# Altium integrated library Holtek Semiconductor 8-Bit OTP MCU.IntLib: 195 symbols (part 2 of 7)
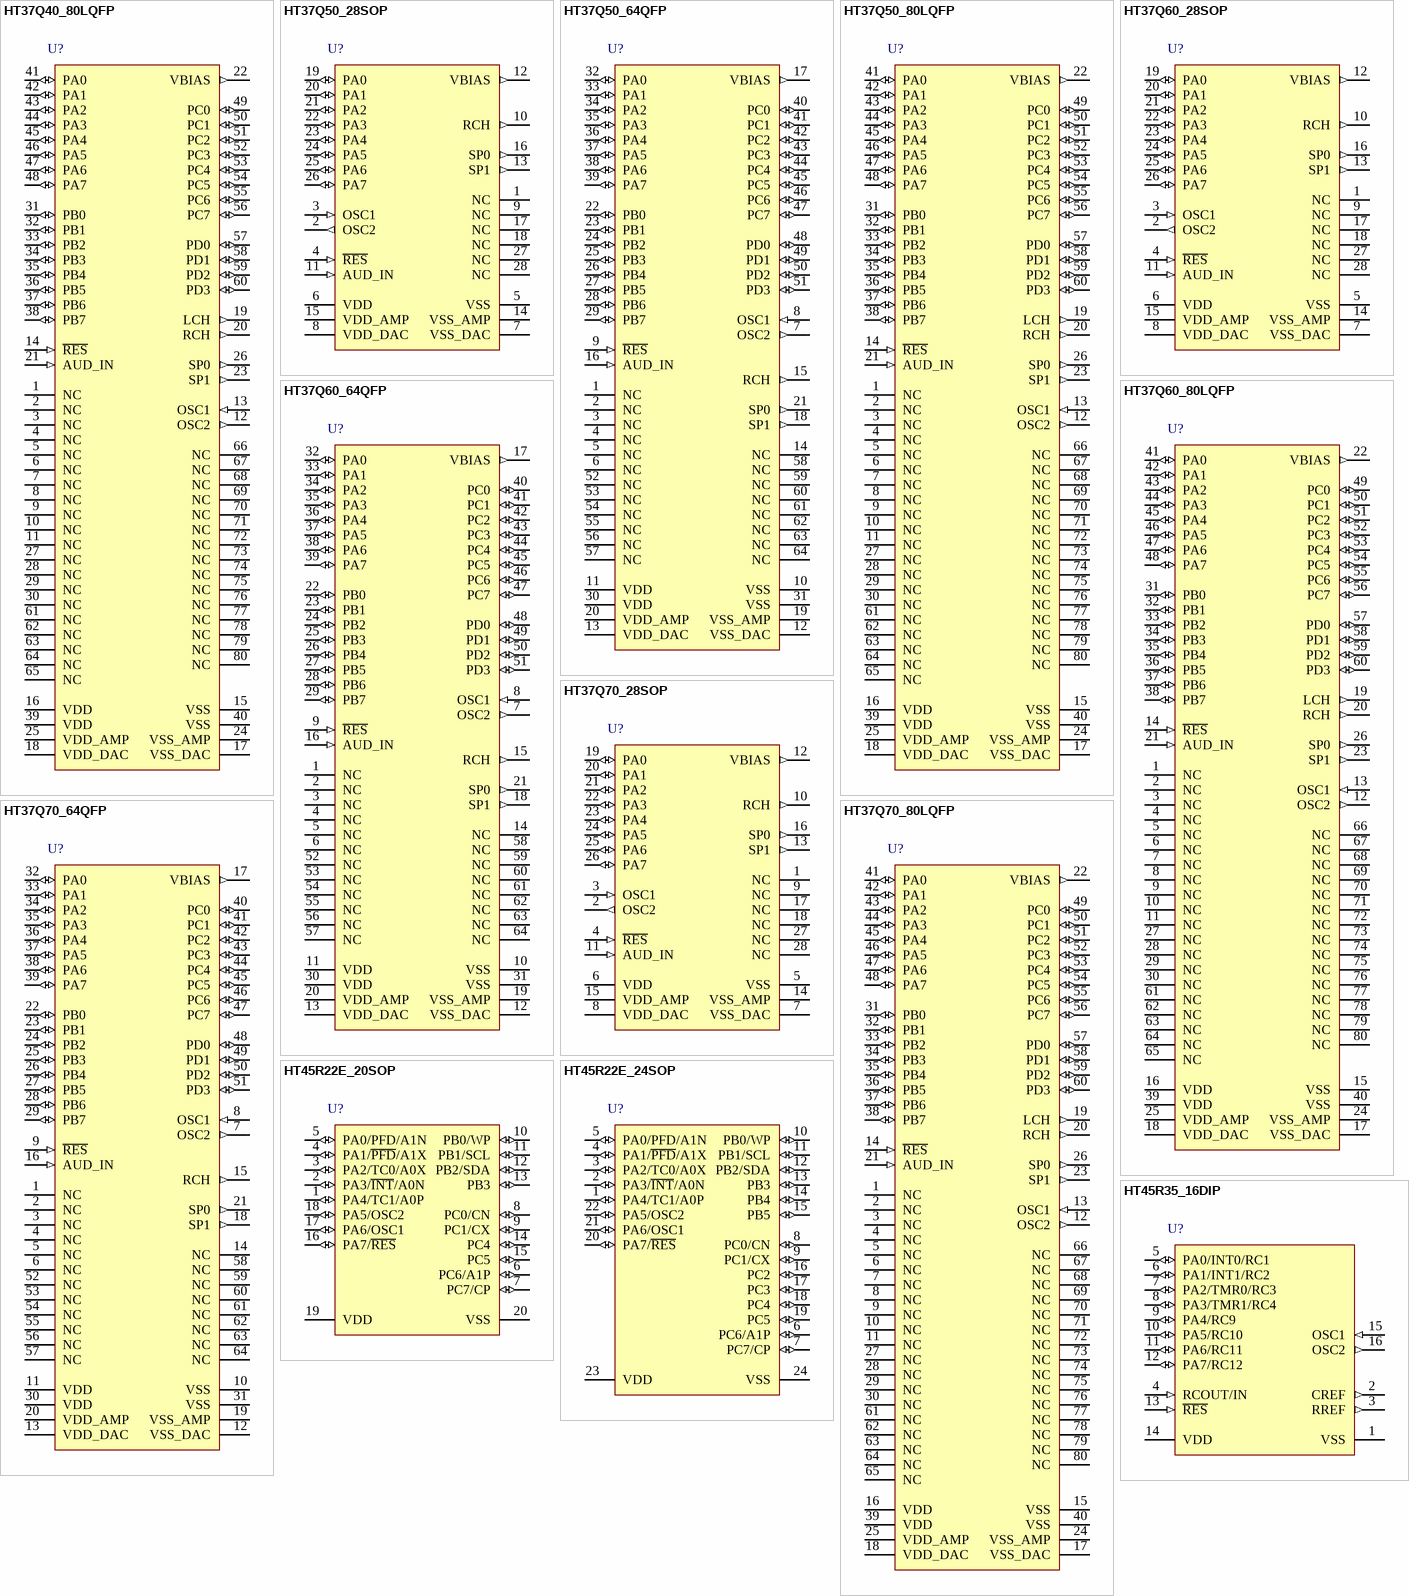
[diagram p13: symbols HT37Q40_80LQFP to HT45R35_16DIP]

## HT37Q70_28SOP
designator U?
Voice & Music MCU, Enhanced Music MCU (4 Polyphony), 2.4V-5.5V, 2Kx15 Program Memory, 80x8 Data Memory, 12 I/O, 2 x 8-bit Timer, 1 x 16-bit Timer, 16-bitx1 D/A, 28-pin SOP; I/O: 12; DatasheetVersion: rev1.0, Feb-2009; PackageVersion: 25/05/2010; PackageReference: 28SOP; PackageDescription: 28-Pin Small Outline Package, 300mil Wide, 1.27 mm Pitch; Series: Enhanced Music MCU (4 Polyphony); Operating Voltage: 2.4V-5.5V; Program Memory: 2Kx15; Data Memory: 80x8; Code_JEDEC: MS-013; ComponentLink1Description: Manufacturer URL; ComponentLink1URL: http://www.holtek.com/; ComponentLink2Description: Datasheet; ComponentLink2URL: http://www.holtek.com.cn/pdf/consumer/37qxxv100.pdf; ComponentLink3Description: Package Specification; ComponentLink3URL: http://www.holtek.com/english/literature/package.pdf
footprint 28SOP_N (SOIC, 28-Leads, Body 17.9x7.1mm, Pitch 1.27mm, IPC Medium Density)
footprint 28SOP_L (SOIC, 28-Leads, Body 17.9x7.1mm, Pitch 1.27mm, IPC High Density)
footprint 28SOP_M (SOIC, 28-Leads, Body 17.9x7.1mm, Pitch 1.27mm, IPC Low Density)
pins: 1 NC, 2 OSC2 (out), 3 OSC1 (in), 4 ~{RES} (in), 5 VSS (power), 6 VDD (power), 7 VSS_DAC (power), 8 VDD_DAC (power), 9 NC, 10 RCH (out), 11 AUD_IN (in), 12 VBIAS (out), 13 SP1 (out), 14 VSS_AMP (power), 15 VDD_AMP (power), 16 SP0 (out), 17 NC, 18 NC, 19 PA0 (io), 20 PA1 (io), 21 PA2 (io), 22 PA3 (io), 23 PA4 (io), 24 PA5 (io), 25 PA6 (io), 26 PA7 (io), 27 NC, 28 NC

## HT37Q70_64QFP
designator U?
Voice & Music MCU, Enhanced Music MCU (4 Polyphony), 2.4V-5.5V, 2Kx15 Program Memory, 80x8 Data Memory, 12 I/O, 2 x 8-bit Timer, 1 x 16-bit Timer, 16-bitx1 D/A, 64-pin QFP; I/O: 12; DatasheetVersion: rev1.0, Feb-2009; PackageVersion: 25/05/2010; PackageReference: 64QFP; PackageDescription: 64-Pin Quad Flat Pack, 20 x 14 mm Body, 1 mm Pitch; Series: Enhanced Music MCU (4 Polyphony); Operating Voltage: 2.4V-5.5V; Program Memory: 2Kx15; Data Memory: 80x8; ComponentLink1Description: Manufacturer URL; ComponentLink1URL: http://www.holtek.com/; ComponentLink2Description: Datasheet; ComponentLink2URL: http://www.holtek.com.cn/pdf/consumer/37qxxv100.pdf; ComponentLink3Description: Package Specification; ComponentLink3URL: http://www.holtek.com/english/literature/package.pdf
footprint 64QFP_N (QFP, 64-Leads, Body 20x14mm, Pitch 1mm, IPC Medium Density)
footprint 64QFP_L (QFP, 64-Leads, Body 20x14mm, Pitch 1mm, IPC High Density)
footprint 64QFP_M (QFP, 64-Leads, Body 20x14mm, Pitch 1mm, IPC Low Density)
pins: 1 NC, 2 NC, 3 NC, 4 NC, 5 NC, 6 NC, 7 OSC2 (out), 8 OSC1 (in), 9 ~{RES} (in), 10 VSS (power), 11 VDD (power), 12 VSS_DAC (power), 13 VDD_DAC (power), 14 NC, 15 RCH (out), 16 AUD_IN (in), 17 VBIAS (out), 18 SP1 (out), 19 VSS_AMP (power), 20 VDD_AMP (power), 21 SP0 (out), 22 PB0 (io), 23 PB1 (io), 24 PB2 (io), 25 PB3 (io), 26 PB4 (io), 27 PB5 (io), 28 PB6 (io), 29 PB7 (io), 30 VDD (power), 31 VSS (power), 32 PA0 (io), 33 PA1 (io), 34 PA2 (io), 35 PA3 (io), 36 PA4 (io), 37 PA5 (io), 38 PA6 (io), 39 PA7 (io), 40 PC0 (io), 41 PC1 (io), 42 PC2 (io), 43 PC3 (io), 44 PC4 (io), 45 PC5 (io), 46 PC6 (io), 47 PC7 (io), 48 PD0 (io), 49 PD1 (io), 50 PD2 (io), 51 PD3 (io), 52 NC, 53 NC, 54 NC, 55 NC, 56 NC, 57 NC, 58 NC, 59 NC, 60 NC, 61 NC, 62 NC, 63 NC, 64 NC

## HT37Q70_80LQFP
designator U?
Voice & Music MCU, Enhanced Music MCU (4 Polyphony), 2.4V-5.5V, 2Kx15 Program Memory, 80x8 Data Memory, 12 I/O, 2 x 8-bit Timer, 1 x 16-bit Timer, 16-bitx1 D/A, 80-pin LQFP; I/O: 12; DatasheetVersion: rev1.0, Feb-2009; PackageVersion: 25/05/2010; PackageReference: 80LQFP; PackageDescription: 80-Pin Low Profile Quad Flat Pack, 10 x 10 mm Body, 0.4 mm Pitch; Series: Enhanced Music MCU (4 Polyphony); Operating Voltage: 2.4V-5.5V; Program Memory: 2Kx15; Data Memory: 80x8; ComponentLink1Description: Manufacturer URL; ComponentLink1URL: http://www.holtek.com/; ComponentLink2Description: Datasheet; ComponentLink2URL: http://www.holtek.com.cn/pdf/consumer/37qxxv100.pdf; ComponentLink3Description: Package Specification; ComponentLink3URL: http://www.holtek.com/english/literature/package.pdf
footprint 80LQFP_N (Thin QFP, 80-Leads, Body 10x10mm, Pitch 0.4mm, IPC Medium Density)
footprint 80LQFP_L (Thin QFP, 80-Leads, Body 10x10mm, Pitch 0.4mm, IPC High Density)
footprint 80LQFP_M (Thin QFP, 80-Leads, Body 10x10mm, Pitch 0.4mm, IPC Low Density)
pins: 1 NC, 2 NC, 3 NC, 4 NC, 5 NC, 6 NC, 7 NC, 8 NC, 9 NC, 10 NC, 11 NC, 12 OSC2 (out), 13 OSC1 (in), 14 ~{RES} (in), 15 VSS (power), 16 VDD (power), 17 VSS_DAC (power), 18 VDD_DAC (power), 19 LCH (out), 20 RCH (out), 21 AUD_IN (in), 22 VBIAS (out), 23 SP1 (out), 24 VSS_AMP (power), 25 VDD_AMP (power), 26 SP0 (out), 27 NC, 28 NC, 29 NC, 30 NC, 31 PB0 (io), 32 PB1 (io), 33 PB2 (io), 34 PB3 (io), 35 PB4 (io), 36 PB5 (io), 37 PB6 (io), 38 PB7 (io), 39 VDD (power), 40 VSS (power), 41 PA0 (io), 42 PA1 (io), 43 PA2 (io), 44 PA3 (io), 45 PA4 (io), 46 PA5 (io), 47 PA6 (io), 48 PA7 (io), 49 PC0 (io), 50 PC1 (io), 51 PC2 (io), 52 PC3 (io), 53 PC4 (io), 54 PC5 (io), 55 PC6 (io), 56 PC7 (io), 57 PD0 (io), 58 PD1 (io), 59 PD2 (io), 60 PD3 (io), 61 NC, 62 NC, 63 NC, 64 NC, 65 NC, 66 NC, 67 NC, 68 NC, 69 NC, 70 NC, 71 NC, 72 NC, 73 NC, 74 NC, 75 NC, 76 NC, 77 NC, 78 NC, 79 NC, 80 NC

## HT45R22E_20SOP
designator U?
IR Remote MCU, Remote Type MCU with EEPROM/OPA, 2.2V-3.6V, 32kHz-4095kHz, 4Kx15 Program Memory, 128x8 DataMemory, 1Kx8 DataEEPROM, 22 I/O, 2 x 8-bit Timer, 20-pin SOP; I/O: 22; DatasheetVersion: rev1.1, Aug-2010; PackageVersion: 25/05/2010; PackageReference: 20SOP; PackageDescription: 20-Pin Small Outline Package, 300mil Wide, 1.27 mm Pitch; Series: Remote Type MCU with EEPROM/OPA; Operating Voltage: 2.2V-3.6V; Program Memory: 4Kx15; Data Memory: 128x8 DataMemory, 1Kx8 DataEEPROM; Code_JEDEC: MS-013; Code_IPC: SOIC127P1030-20; ComponentLink1Description: Manufacturer URL; ComponentLink1URL: http://www.holtek.com/; ComponentLink2Description: Datasheet; ComponentLink2URL: http://www.holtek.com.cn/pdf/uc/sim45r22ev110.pdf; ComponentLink3Description: Package Specification; ComponentLink3URL: http://www.holtek.com/english/literature/package.pdf
footprint 20SOP_N (SOIC, 20-Leads, Body 12.8x7.1mm, Pitch 1.27mm, IPC Medium Density)
footprint 20SOP_L (SOIC, 20-Leads, Body 12.8x7.1mm, Pitch 1.27mm, IPC High Density)
footprint 20SOP_M (SOIC, 20-Leads, Body 12.8x7.1mm, Pitch 1.27mm, IPC Low Density)
pins: 1 PA4/TC1/A0P (io), 2 PA3/~{INT}/A0N (io), 3 PA2/TC0/A0X (io), 4 PA1/~{PFD}/A1X (io), 5 PA0/PFD/A1N (io), 6 PC6/A1P (io), 7 PC7/CP (io), 8 PC0/CN (io), 9 PC1/CX (io), 10 PB0/WP (io), 11 PB1/SCL (io), 12 PB2/SDA (io), 13 PB3 (io), 14 PC4 (io), 15 PC5 (io), 16 PA7/~{RES} (io), 17 PA6/OSC1 (io), 18 PA5/OSC2 (io), 19 VDD (power), 20 VSS (power)

## HT45R22E_24SOP
designator U?
IR Remote MCU, Remote Type MCU with EEPROM/OPA, 2.2V-3.6V, 32kHz-4095kHz, 4Kx15 Program Memory, 128x8 DataMemory, 1Kx8 DataEEPROM, 22 I/O, 2 x 8-bit Timer, 24-pin SOP; I/O: 22; DatasheetVersion: rev1.1, Aug-2010; PackageVersion: 25/05/2010; PackageReference: 24SOP; PackageDescription: 24-Pin Small Outline Package, 300mil Wide, 1.27 mm Pitch; Series: Remote Type MCU with EEPROM/OPA; Operating Voltage: 2.2V-3.6V; Program Memory: 4Kx15; Data Memory: 128x8 DataMemory, 1Kx8 DataEEPROM; Code_JEDEC: MS-013; ComponentLink1Description: Manufacturer URL; ComponentLink1URL: http://www.holtek.com/; ComponentLink2Description: Datasheet; ComponentLink2URL: http://www.holtek.com.cn/pdf/uc/sim45r22ev110.pdf; ComponentLink3Description: Package Specification; ComponentLink3URL: http://www.holtek.com/english/literature/package.pdf
footprint 24SOP_N (SOIC, 24-Leads, Body 15.4x7.1mm, Pitch 1.27mm, IPC Medium Density)
footprint 24SOP_L (SOIC, 24-Leads, Body 15.4x7.1mm, Pitch 1.27mm, IPC High Density)
footprint 24SOP_M (SOIC, 24-Leads, Body 15.4x7.1mm, Pitch 1.27mm, IPC Low Density)
pins: 1 PA4/TC1/A0P (io), 2 PA3/~{INT}/A0N (io), 3 PA2/TC0/A0X (io), 4 PA1/~{PFD}/A1X (io), 5 PA0/PFD/A1N (io), 6 PC6/A1P (io), 7 PC7/CP (io), 8 PC0/CN (io), 9 PC1/CX (io), 10 PB0/WP (io), 11 PB1/SCL (io), 12 PB2/SDA (io), 13 PB3 (io), 14 PB4 (io), 15 PB5 (io), 16 PC2 (io), 17 PC3 (io), 18 PC4 (io), 19 PC5 (io), 20 PA7/~{RES} (io), 21 PA6/OSC1 (io), 22 PA5/OSC2 (io), 23 VDD (power), 24 VSS (power)

## HT45R35_16DIP
designator U?
Touch Key MCU, C/R-F Type MCU, 2.2V-5.5V, 400kHz-8MHz, 2Kx14 Program Memory, 120x8 Data Memory, 16 I/O, 1 x 8-bit Timer, 1 x 16-bit Timer, 12 C/R-F, 16-pin DIP; I/O: 16; DatasheetVersion: rev1.3, May-2010; PackageVersion: 25/05/2010; PackageReference: 16DIP; PackageDescription: 16-Pin, Dual In-line Package, 300mil Width, Pitch 2.54 mm, Full Lead; Series: C/R-F Type MCU; Operating Voltage: 2.2V-5.5V; Program Memory: 2Kx14; Data Memory: 120x8; Code_JEDEC: MS-001D; ComponentLink1Description: Manufacturer URL; ComponentLink1URL: http://www.holtek.com/; ComponentLink2Description: Datasheet; ComponentLink2URL: http://www.holtek.com.cn/pdf/uc/sim45x35v130.pdf; ComponentLink3Description: Package Specification; ComponentLink3URL: http://www.holtek.com/english/literature/package.pdf
footprint 16DIP (DIP, 16-Leads, Row Spacing 7.62mm, Pitch 2.54mm, Body 21.1x6.6mm)
pins: 1 VSS (power), 2 CREF (out), 3 RREF (out), 4 RCOUT/IN (in), 5 PA0/INT0/RC1 (io), 6 PA1/INT1/RC2 (io), 7 PA2/TMR0/RC3 (io), 8 PA3/TMR1/RC4 (io), 9 PA4/RC9 (io), 10 PA5/RC10 (io), 11 PA6/RC11 (io), 12 PA7/RC12 (io), 13 ~{RES} (in), 14 VDD (power), 15 OSC1 (in), 16 OSC2 (out)

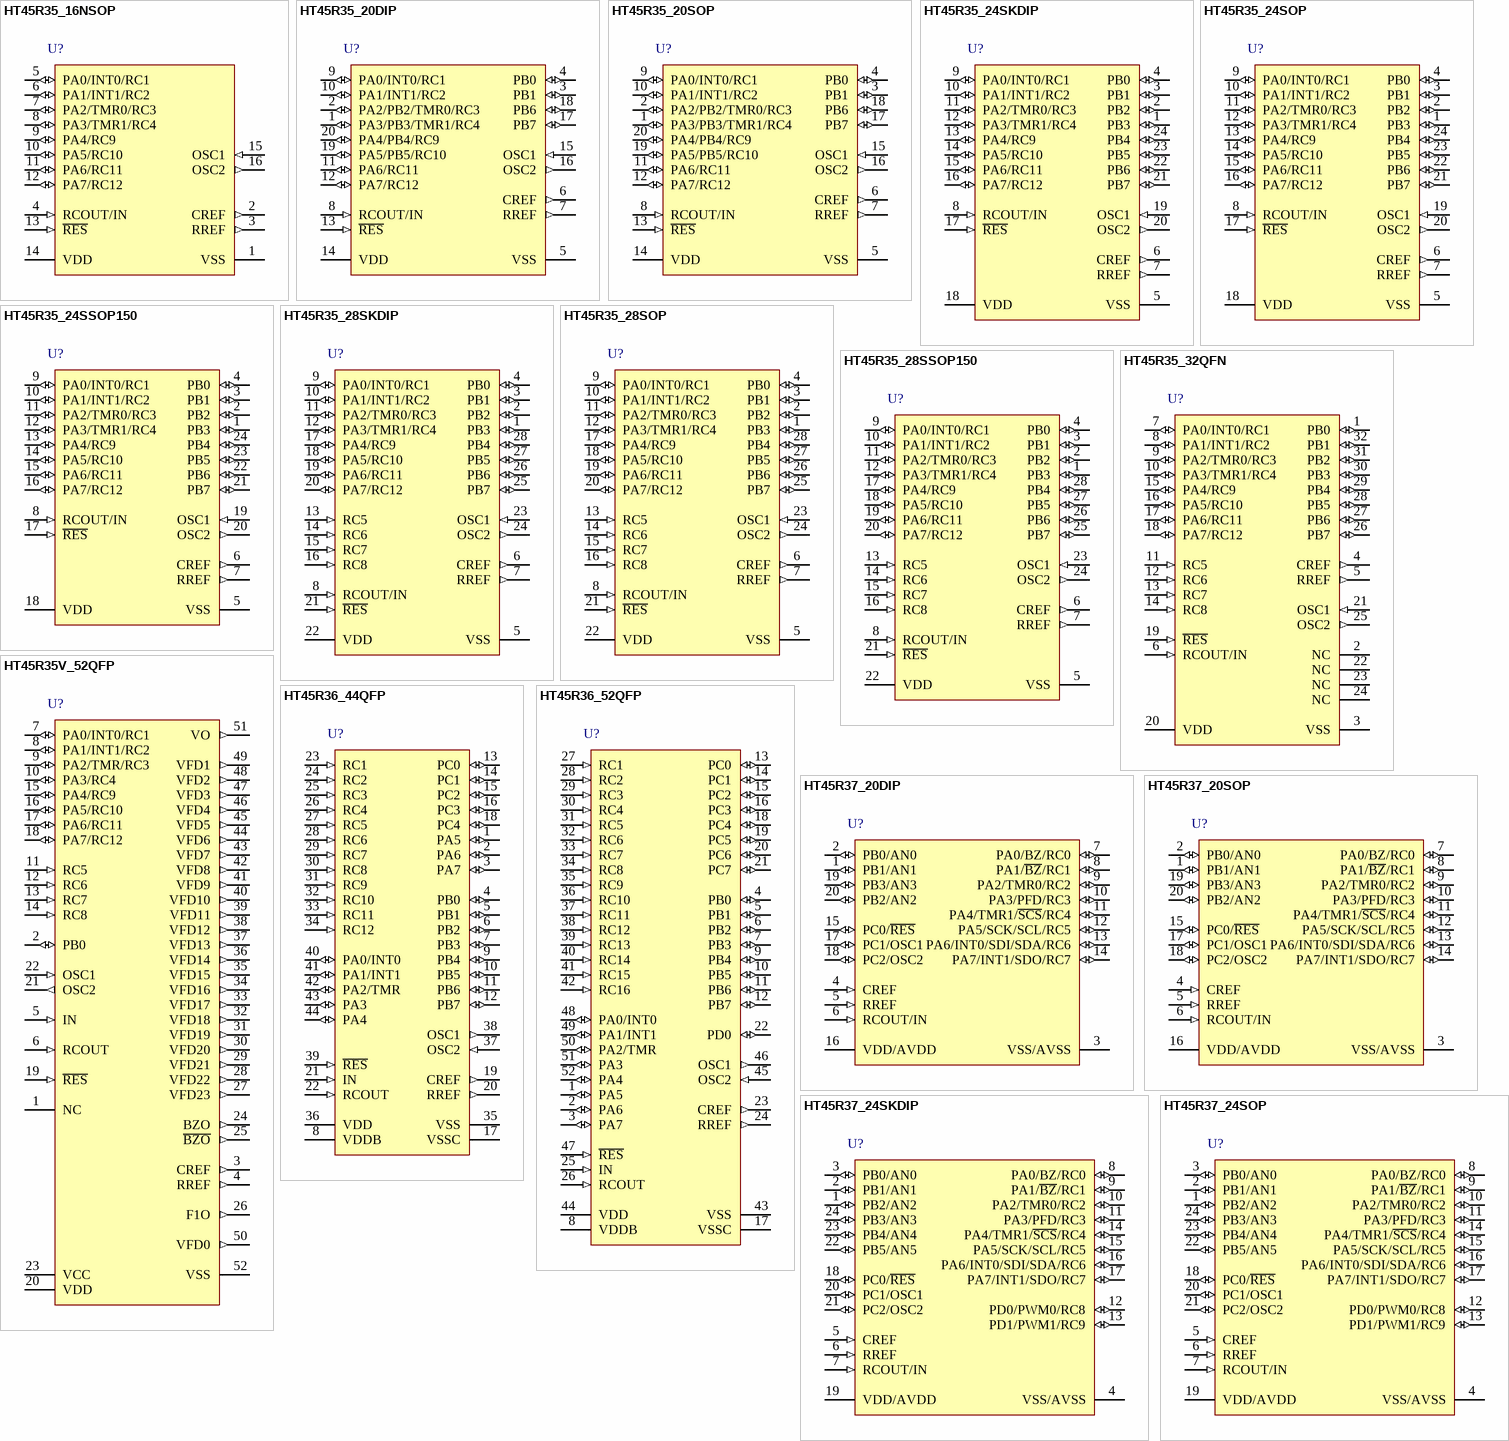
[diagram p3: symbols HT45R35_16NSOP to HT45R37_24SOP]

## HT45R35_16NSOP
designator U?
Touch Key MCU, C/R-F Type MCU, 2.2V-5.5V, 400kHz-8MHz, 2Kx14 Program Memory, 120x8 Data Memory, 16 I/O, 1 x 8-bit Timer, 1 x 16-bit Timer, 12 C/R-F, 16-pin NSOP; I/O: 16; DatasheetVersion: rev1.3, May-2010; PackageVersion: 25/05/2010; PackageReference: 16NSOP; PackageDescription: 16-Pin Narrow Small Outline Package, 150mil Wide, 1.27 mm Pitch; Series: C/R-F Type MCU; Operating Voltage: 2.2V-5.5V; Program Memory: 2Kx14; Data Memory: 120x8; ComponentLink1Description: Manufacturer URL; ComponentLink1URL: http://www.holtek.com/; ComponentLink2Description: Datasheet; ComponentLink2URL: http://www.holtek.com.cn/pdf/uc/sim45x35v130.pdf; ComponentLink3Description: Package Specification; ComponentLink3URL: http://www.holtek.com/english/literature/package.pdf
footprint 16NSOP_N (SOIC, 16-Leads, Body 10.01x3.9mm, Pitch 1.27mm, IPC Medium Density)
footprint 16NSOP_L (SOIC, 16-Leads, Body 10.01x3.9mm, Pitch 1.27mm, IPC High Density)
footprint 16NSOP_M (SOIC, 16-Leads, Body 10.01x3.9mm, Pitch 1.27mm, IPC Low Density)
pins: 1 VSS (power), 2 CREF (out), 3 RREF (out), 4 RCOUT/IN (in), 5 PA0/INT0/RC1 (io), 6 PA1/INT1/RC2 (io), 7 PA2/TMR0/RC3 (io), 8 PA3/TMR1/RC4 (io), 9 PA4/RC9 (io), 10 PA5/RC10 (io), 11 PA6/RC11 (io), 12 PA7/RC12 (io), 13 ~{RES} (in), 14 VDD (power), 15 OSC1 (in), 16 OSC2 (out)

## HT45R35_20DIP
designator U?
Touch Key MCU, C/R-F Type MCU, 2.2V-5.5V, 400kHz-8MHz, 2Kx14 Program Memory, 120x8 Data Memory, 16 I/O, 1 x 8-bit Timer, 1 x 16-bit Timer, 12 C/R-F, 20-pin DIP; I/O: 16; DatasheetVersion: rev1.3, May-2010; PackageVersion: 25/05/2010; PackageReference: 20DIP; PackageDescription: 20-Pin, Dual In-line Package, 300mil Width, Pitch 2.54 mm, Full Lead; Series: C/R-F Type MCU; Operating Voltage: 2.2V-5.5V; Program Memory: 2Kx14; Data Memory: 120x8; Code_JEDEC: MO-095A; ComponentLink1Description: Manufacturer URL; ComponentLink1URL: http://www.holtek.com/; ComponentLink2Description: Datasheet; ComponentLink2URL: http://www.holtek.com.cn/pdf/uc/sim45x35v130.pdf; ComponentLink3Description: Package Specification; ComponentLink3URL: http://www.holtek.com/english/literature/package.pdf
footprint 20DIP (DIP, 20-Leads, Row Spacing 7.62mm, Pitch 2.54mm, Body 24.5x7.2mm)
pins: 1 PA3/PB3/TMR1/RC4 (io), 2 PA2/PB2/TMR0/RC3 (io), 3 PB1 (io), 4 PB0 (io), 5 VSS (power), 6 CREF (out), 7 RREF (out), 8 RCOUT/IN (in), 9 PA0/INT0/RC1 (io), 10 PA1/INT1/RC2 (io), 11 PA6/RC11 (io), 12 PA7/RC12 (io), 13 ~{RES} (in), 14 VDD (power), 15 OSC1 (in), 16 OSC2 (out), 17 PB7 (io), 18 PB6 (io), 19 PA5/PB5/RC10 (io), 20 PA4/PB4/RC9 (io)

## HT45R35_20SOP
designator U?
Touch Key MCU, C/R-F Type MCU, 2.2V-5.5V, 400kHz-8MHz, 2Kx14 Program Memory, 120x8 Data Memory, 16 I/O, 1 x 8-bit Timer, 1 x 16-bit Timer, 12 C/R-F, 20-pin SOP; I/O: 16; DatasheetVersion: rev1.3, May-2010; PackageVersion: 25/05/2010; PackageReference: 20SOP; PackageDescription: 20-Pin Small Outline Package, 300mil Wide, 1.27 mm Pitch; Series: C/R-F Type MCU; Operating Voltage: 2.2V-5.5V; Program Memory: 2Kx14; Data Memory: 120x8; Code_JEDEC: MS-013; Code_IPC: SOIC127P1030-20; ComponentLink1Description: Manufacturer URL; ComponentLink1URL: http://www.holtek.com/; ComponentLink2Description: Datasheet; ComponentLink2URL: http://www.holtek.com.cn/pdf/uc/sim45x35v130.pdf; ComponentLink3Description: Package Specification; ComponentLink3URL: http://www.holtek.com/english/literature/package.pdf
footprint 20SOP_N (SOIC, 20-Leads, Body 12.8x7.1mm, Pitch 1.27mm, IPC Medium Density)
footprint 20SOP_L (SOIC, 20-Leads, Body 12.8x7.1mm, Pitch 1.27mm, IPC High Density)
footprint 20SOP_M (SOIC, 20-Leads, Body 12.8x7.1mm, Pitch 1.27mm, IPC Low Density)
pins: 1 PA3/PB3/TMR1/RC4 (io), 2 PA2/PB2/TMR0/RC3 (io), 3 PB1 (io), 4 PB0 (io), 5 VSS (power), 6 CREF (out), 7 RREF (out), 8 RCOUT/IN (in), 9 PA0/INT0/RC1 (io), 10 PA1/INT1/RC2 (io), 11 PA6/RC11 (io), 12 PA7/RC12 (io), 13 ~{RES} (in), 14 VDD (power), 15 OSC1 (in), 16 OSC2 (out), 17 PB7 (io), 18 PB6 (io), 19 PA5/PB5/RC10 (io), 20 PA4/PB4/RC9 (io)

## HT45R35_24SKDIP
designator U?
Touch Key MCU, C/R-F Type MCU, 2.2V-5.5V, 400kHz-8MHz, 2Kx14 Program Memory, 120x8 Data Memory, 16 I/O, 1 x 8-bit Timer, 1 x 16-bit Timer, 12 C/R-F, 24-pin SKDIP; I/O: 16; DatasheetVersion: rev1.3, May-2010; PackageVersion: 25/05/2010; PackageReference: 24SKDIP; PackageDescription: 24-Pin, Skinny Dual In-line Package, 300mil Width, Pitch 2.54 mm, Full Lead (MS-001D); Series: C/R-F Type MCU; Operating Voltage: 2.2V-5.5V; Program Memory: 2Kx14; Data Memory: 120x8; Code_JEDEC: MS-001; ComponentLink1Description: Manufacturer URL; ComponentLink1URL: http://www.holtek.com/; ComponentLink2Description: Datasheet; ComponentLink2URL: http://www.holtek.com.cn/pdf/uc/sim45x35v130.pdf; ComponentLink3Description: Package Specification; ComponentLink3URL: http://www.holtek.com/english/literature/package.pdf
footprint 24SKDIP (DIP, 24-Leads, Row Spacing 7.62mm, Pitch 2.54mm, Body 31.9x6.6mm)
pins: 1 PB3 (io), 2 PB2 (io), 3 PB1 (io), 4 PB0 (io), 5 VSS (power), 6 CREF (out), 7 RREF (out), 8 RCOUT/IN (in), 9 PA0/INT0/RC1 (io), 10 PA1/INT1/RC2 (io), 11 PA2/TMR0/RC3 (io), 12 PA3/TMR1/RC4 (io), 13 PA4/RC9 (io), 14 PA5/RC10 (io), 15 PA6/RC11 (io), 16 PA7/RC12 (io), 17 ~{RES} (in), 18 VDD (power), 19 OSC1 (in), 20 OSC2 (out), 21 PB7 (io), 22 PB6 (io), 23 PB5 (io), 24 PB4 (io)

## HT45R35_24SOP
designator U?
Touch Key MCU, C/R-F Type MCU, 2.2V-5.5V, 400kHz-8MHz, 2Kx14 Program Memory, 120x8 Data Memory, 16 I/O, 1 x 8-bit Timer, 1 x 16-bit Timer, 12 C/R-F, 24-pin SOP; I/O: 16; DatasheetVersion: rev1.3, May-2010; PackageVersion: 25/05/2010; PackageReference: 24SOP; PackageDescription: 24-Pin Small Outline Package, 300mil Wide, 1.27 mm Pitch; Series: C/R-F Type MCU; Operating Voltage: 2.2V-5.5V; Program Memory: 2Kx14; Data Memory: 120x8; Code_JEDEC: MS-013; ComponentLink1Description: Manufacturer URL; ComponentLink1URL: http://www.holtek.com/; ComponentLink2Description: Datasheet; ComponentLink2URL: http://www.holtek.com.cn/pdf/uc/sim45x35v130.pdf; ComponentLink3Description: Package Specification; ComponentLink3URL: http://www.holtek.com/english/literature/package.pdf
footprint 24SOP_N (SOIC, 24-Leads, Body 15.4x7.1mm, Pitch 1.27mm, IPC Medium Density)
footprint 24SOP_L (SOIC, 24-Leads, Body 15.4x7.1mm, Pitch 1.27mm, IPC High Density)
footprint 24SOP_M (SOIC, 24-Leads, Body 15.4x7.1mm, Pitch 1.27mm, IPC Low Density)
pins: 1 PB3 (io), 2 PB2 (io), 3 PB1 (io), 4 PB0 (io), 5 VSS (power), 6 CREF (out), 7 RREF (out), 8 RCOUT/IN (in), 9 PA0/INT0/RC1 (io), 10 PA1/INT1/RC2 (io), 11 PA2/TMR0/RC3 (io), 12 PA3/TMR1/RC4 (io), 13 PA4/RC9 (io), 14 PA5/RC10 (io), 15 PA6/RC11 (io), 16 PA7/RC12 (io), 17 ~{RES} (in), 18 VDD (power), 19 OSC1 (in), 20 OSC2 (out), 21 PB7 (io), 22 PB6 (io), 23 PB5 (io), 24 PB4 (io)

## HT45R35_24SSOP150
designator U?
Touch Key MCU, C/R-F Type MCU, 2.2V-5.5V, 400kHz-8MHz, 2Kx14 Program Memory, 120x8 Data Memory, 16 I/O, 1 x 8-bit Timer, 1 x 16-bit Timer, 12 C/R-F, 24-pin SSOP; I/O: 16; DatasheetVersion: rev1.3, May-2010; PackageVersion: 25/05/2010; PackageReference: 24SSOP150; PackageDescription: 24-Pin Shrink Small Outline Package, 150mil Width, 0.64 mm Pitch; Series: C/R-F Type MCU; Operating Voltage: 2.2V-5.5V; Program Memory: 2Kx14; Data Memory: 120x8; ComponentLink1Description: Manufacturer URL; ComponentLink1URL: http://www.holtek.com/; ComponentLink2Description: Datasheet; ComponentLink2URL: http://www.holtek.com.cn/pdf/uc/sim45x35v130.pdf; ComponentLink3Description: Package Specification; ComponentLink3URL: http://www.holtek.com/english/literature/package.pdf
footprint 24SSOP150_N (SOP, 24-Leads, Body 8.7x3.9mm, Pitch 0.635mm, IPC Medium Density)
footprint 24SSOP150_L (SOP, 24-Leads, Body 8.7x3.9mm, Pitch 0.635mm, IPC High Density)
footprint 24SSOP150_M (SOP, 24-Leads, Body 8.7x3.9mm, Pitch 0.635mm, IPC Low Density)
pins: 1 PB3 (io), 2 PB2 (io), 3 PB1 (io), 4 PB0 (io), 5 VSS (power), 6 CREF (out), 7 RREF (out), 8 RCOUT/IN (in), 9 PA0/INT0/RC1 (io), 10 PA1/INT1/RC2 (io), 11 PA2/TMR0/RC3 (io), 12 PA3/TMR1/RC4 (io), 13 PA4/RC9 (io), 14 PA5/RC10 (io), 15 PA6/RC11 (io), 16 PA7/RC12 (io), 17 ~{RES} (in), 18 VDD (power), 19 OSC1 (in), 20 OSC2 (out), 21 PB7 (io), 22 PB6 (io), 23 PB5 (io), 24 PB4 (io)

## HT45R35_28SKDIP
designator U?
Touch Key MCU, C/R-F Type MCU, 2.2V-5.5V, 400kHz-8MHz, 2Kx14 Program Memory, 120x8 Data Memory, 16 I/O, 1 x 8-bit Timer, 1 x 16-bit Timer, 12 C/R-F, 28-pin SKDIP; I/O: 16; DatasheetVersion: rev1.3, May-2010; PackageVersion: 25/05/2010; PackageReference: 28SKDIP; PackageDescription: 28-Pin, Skinny Dual In-line Package, 300mil Width, Pitch 2.54 mm; Series: C/R-F Type MCU; Operating Voltage: 2.2V-5.5V; Program Memory: 2Kx14; Data Memory: 120x8; ComponentLink1Description: Manufacturer URL; ComponentLink1URL: http://www.holtek.com/; ComponentLink2Description: Datasheet; ComponentLink2URL: http://www.holtek.com.cn/pdf/uc/sim45x35v130.pdf; ComponentLink3Description: Package Specification; ComponentLink3URL: http://www.holtek.com/english/literature/package.pdf
footprint 28SKDIP (DIP, 28-Leads, Row Spacing 7.62mm, Pitch 2.54mm, Body 35.2x7.3mm)
pins: 1 PB3 (io), 2 PB2 (io), 3 PB1 (io), 4 PB0 (io), 5 VSS (power), 6 CREF (out), 7 RREF (out), 8 RCOUT/IN (in), 9 PA0/INT0/RC1 (io), 10 PA1/INT1/RC2 (io), 11 PA2/TMR0/RC3 (io), 12 PA3/TMR1/RC4 (io), 13 RC5 (in), 14 RC6 (in), 15 RC7 (in), 16 RC8 (in), 17 PA4/RC9 (io), 18 PA5/RC10 (io), 19 PA6/RC11 (io), 20 PA7/RC12 (io), 21 ~{RES} (in), 22 VDD (power), 23 OSC1 (in), 24 OSC2 (out), 25 PB7 (io), 26 PB6 (io), 27 PB5 (io), 28 PB4 (io)

## HT45R35_28SOP
designator U?
Touch Key MCU, C/R-F Type MCU, 2.2V-5.5V, 400kHz-8MHz, 2Kx14 Program Memory, 120x8 Data Memory, 16 I/O, 1 x 8-bit Timer, 1 x 16-bit Timer, 12 C/R-F, 28-pin SOP; I/O: 16; DatasheetVersion: rev1.3, May-2010; PackageVersion: 25/05/2010; PackageReference: 28SOP; PackageDescription: 28-Pin Small Outline Package, 300mil Wide, 1.27 mm Pitch; Series: C/R-F Type MCU; Operating Voltage: 2.2V-5.5V; Program Memory: 2Kx14; Data Memory: 120x8; Code_JEDEC: MS-013; ComponentLink1Description: Manufacturer URL; ComponentLink1URL: http://www.holtek.com/; ComponentLink2Description: Datasheet; ComponentLink2URL: http://www.holtek.com.cn/pdf/uc/sim45x35v130.pdf; ComponentLink3Description: Package Specification; ComponentLink3URL: http://www.holtek.com/english/literature/package.pdf
footprint 28SOP_N (SOIC, 28-Leads, Body 17.9x7.1mm, Pitch 1.27mm, IPC Medium Density)
footprint 28SOP_L (SOIC, 28-Leads, Body 17.9x7.1mm, Pitch 1.27mm, IPC High Density)
footprint 28SOP_M (SOIC, 28-Leads, Body 17.9x7.1mm, Pitch 1.27mm, IPC Low Density)
pins: 1 PB3 (io), 2 PB2 (io), 3 PB1 (io), 4 PB0 (io), 5 VSS (power), 6 CREF (out), 7 RREF (out), 8 RCOUT/IN (in), 9 PA0/INT0/RC1 (io), 10 PA1/INT1/RC2 (io), 11 PA2/TMR0/RC3 (io), 12 PA3/TMR1/RC4 (io), 13 RC5 (in), 14 RC6 (in), 15 RC7 (in), 16 RC8 (in), 17 PA4/RC9 (io), 18 PA5/RC10 (io), 19 PA6/RC11 (io), 20 PA7/RC12 (io), 21 ~{RES} (in), 22 VDD (power), 23 OSC1 (in), 24 OSC2 (out), 25 PB7 (io), 26 PB6 (io), 27 PB5 (io), 28 PB4 (io)

## HT45R35_28SSOP150
designator U?
Touch Key MCU, C/R-F Type MCU, 2.2V-5.5V, 400kHz-8MHz, 2Kx14 Program Memory, 120x8 Data Memory, 16 I/O, 1 x 8-bit Timer, 1 x 16-bit Timer, 12 C/R-F, 28-pin SSOP; I/O: 16; DatasheetVersion: rev1.3, May-2010; PackageVersion: 25/05/2010; PackageReference: 28SSOP150; PackageDescription: 28-Pin Shrink Small Outline Package, 150mil Width, 0.64 mm Pitch; Series: C/R-F Type MCU; Operating Voltage: 2.2V-5.5V; Program Memory: 2Kx14; Data Memory: 120x8; ComponentLink1Description: Manufacturer URL; ComponentLink1URL: http://www.holtek.com/; ComponentLink2Description: Datasheet; ComponentLink2URL: http://www.holtek.com.cn/pdf/uc/sim45x35v130.pdf; ComponentLink3Description: Package Specification; ComponentLink3URL: http://www.holtek.com/english/literature/package.pdf
footprint 28SSOP150_N (SOP, 28-Leads, Body 9.9x3.9mm, Pitch 0.635mm, IPC Medium Density)
footprint 28SSOP150_L (SOP, 28-Leads, Body 9.9x3.9mm, Pitch 0.635mm, IPC High Density)
footprint 28SSOP150_M (SOP, 28-Leads, Body 9.9x3.9mm, Pitch 0.635mm, IPC Low Density)
pins: 1 PB3 (io), 2 PB2 (io), 3 PB1 (io), 4 PB0 (io), 5 VSS (power), 6 CREF (out), 7 RREF (out), 8 RCOUT/IN (in), 9 PA0/INT0/RC1 (io), 10 PA1/INT1/RC2 (io), 11 PA2/TMR0/RC3 (io), 12 PA3/TMR1/RC4 (io), 13 RC5 (in), 14 RC6 (in), 15 RC7 (in), 16 RC8 (in), 17 PA4/RC9 (io), 18 PA5/RC10 (io), 19 PA6/RC11 (io), 20 PA7/RC12 (io), 21 ~{RES} (in), 22 VDD (power), 23 OSC1 (in), 24 OSC2 (out), 25 PB7 (io), 26 PB6 (io), 27 PB5 (io), 28 PB4 (io)

## HT45R35_32QFN
designator U?
Touch Key MCU, C/R-F Type MCU, 2.2V-5.5V, 400kHz-8MHz, 2Kx14 Program Memory, 120x8 Data Memory, 16 I/O, 1 x 8-bit Timer, 1 x 16-bit Timer, 12 C/R-F, 32-pin QFN; I/O: 16; DatasheetVersion: rev1.3, May-2010; PackageVersion: 25/05/2010; PackageReference: 32QFN; PackageDescription: 32-Pin Sawn Quad Flat No-Lead, 5 x 5 x 0.75 mm Body, 0.5 mm Pitch; Series: C/R-F Type MCU; Operating Voltage: 2.2V-5.5V; Program Memory: 2Kx14; Data Memory: 120x8; ComponentLink1Description: Manufacturer URL; ComponentLink1URL: http://www.holtek.com/; ComponentLink2Description: Datasheet; ComponentLink2URL: http://www.holtek.com.cn/pdf/uc/sim45x35v130.pdf; ComponentLink3Description: Package Specification; ComponentLink3URL: http://www.holtek.com/english/literature/package.pdf
footprint 32QFN_N (QFN, 32-Leads, Body 5x5mm, Pitch 0.5mm, Thermal Pad 3.3x3.3mm, IPC Medium Density)
footprint 32QFN_L (QFN, 32-Leads, Body 5x5mm, Pitch 0.5mm, Thermal Pad 3.3x3.3mm, IPC High Density)
footprint 32QFN_M (QFN, 32-Leads, Body 5x5mm, Pitch 0.5mm, Thermal Pad 3.3x3.3mm, IPC Low Density)
pins: 1 PB0 (io), 2 NC, 3 VSS (power), 4 CREF (out), 5 RREF (out), 6 RCOUT/IN (in), 7 PA0/INT0/RC1 (io), 8 PA1/INT1/RC2 (io), 9 PA2/TMR0/RC3 (io), 10 PA3/TMR1/RC4 (io), 11 RC5 (in), 12 RC6 (in), 13 RC7 (in), 14 RC8 (in), 15 PA4/RC9 (io), 16 PA5/RC10 (io), 17 PA6/RC11 (io), 18 PA7/RC12 (io), 19 ~{RES} (in), 20 VDD (power), 21 OSC1 (in), 22 NC, 23 NC, 24 NC, 25 OSC2 (out), 26 PB7 (io), 27 PB6 (io), 28 PB5 (io), 29 PB4 (io), 30 PB3 (io), 31 PB2 (io), 32 PB1 (io)

## HT45R35V_52QFP
designator U?
Display MCU, 24V VFD MCU, 12V-24V, 400kHz-12MHz, 2Kx14 Program Memory, 120x8 Data Memory, 13 I/O, 1 x 8-bit Timer, 52-pin QFP; I/O: 13; DatasheetVersion: rev1.0, Mar-2009; PackageVersion: 25/05/2010; PackageReference: 52QFP; PackageDescription: 52-Pin Quad Flat Pack, 14 x 14 mm Body, 1 mm Pitch; Series: 24V VFD MCU; Operating Voltage: 12V-24V; Program Memory: 2Kx14; Data Memory: 120x8; ComponentLink1Description: Manufacturer URL; ComponentLink1URL: http://www.holtek.com/; ComponentLink2Description: Datasheet; ComponentLink2URL: http://www.holtek.com.cn/pdf/uc/sim45r35vv100.pdf; ComponentLink3Description: Package Specification; ComponentLink3URL: http://www.holtek.com/english/literature/package.pdf
footprint 52QFP_N (QFP, 52-Leads, Body 14x14mm, Pitch 1mm, IPC Medium Density)
footprint 52QFP_L (QFP, 52-Leads, Body 14x14mm, Pitch 1mm, IPC High Density)
footprint 52QFP_M (QFP, 52-Leads, Body 14x14mm, Pitch 1mm, IPC Low Density)
pins: 1 NC, 2 PB0 (io), 3 CREF (out), 4 RREF (out), 5 IN (in), 6 RCOUT (in), 7 PA0/INT0/RC1 (io), 8 PA1/INT1/RC2 (io), 9 PA2/TMR/RC3 (io), 10 PA3/RC4 (io), 11 RC5 (in), 12 RC6 (in), 13 RC7 (in), 14 RC8 (in), 15 PA4/RC9 (io), 16 PA5/RC10 (io), 17 PA6/RC11 (io), 18 PA7/RC12 (io), 19 ~{RES} (in), 20 VDD (power), 21 OSC2 (out), 22 OSC1 (in), 23 VCC (power), 24 BZO (out), 25 ~{BZO} (out), 26 F1O (out), 27 VFD23 (out), 28 VFD22 (out), 29 VFD21 (out), 30 VFD20 (out), 31 VFD19 (out), 32 VFD18 (out), 33 VFD17 (out), 34 VFD16 (out), 35 VFD15 (out), 36 VFD14 (out), 37 VFD13 (out), 38 VFD12 (out), 39 VFD11 (out), 40 VFD10 (out), 41 VFD9 (out), 42 VFD8 (out), 43 VFD7 (out), 44 VFD6 (out), 45 VFD5 (out), 46 VFD4 (out), 47 VFD3 (out), 48 VFD2 (out), 49 VFD1 (out), 50 VFD0 (out), 51 VO (out), 52 VSS (power)

## HT45R36_44QFP
designator U?
Touch Key MCU, C/R-F Type MCU, 2.2V-5.5V, 400kHz-8MHz, 2Kx14 Program Memory, 120x8 Data Memory, 25 I/O, 1 x 8-bit Timer, 1 x 16-bit Timer, 16 C/R-F, 44-pin QFP; I/O: 25; DatasheetVersion: rev1.0, Sep-2006; PackageVersion: 25/05/2010; PackageReference: 44QFP; PackageDescription: 44-Pin Quad Flat Pack, 10 x 10 mm Body, 0.8 mm Pitch; Series: C/R-F Type MCU; Operating Voltage: 2.2V-5.5V; Program Memory: 2Kx14; Data Memory: 120x8; Code_IPC: QFP80P1320X1320-44; ComponentLink1Description: Manufacturer URL; ComponentLink1URL: http://www.holtek.com/; ComponentLink2Description: Datasheet; ComponentLink2URL: http://www.holtek.com.cn/pdf/uc/sim45x36v100.pdf; ComponentLink3Description: Package Specification; ComponentLink3URL: http://www.holtek.com/english/literature/package.pdf
footprint 44QFP_N (QFP, 44-Leads, Body 10x10mm, Pitch 0.8mm, IPC Medium Density)
footprint 44QFP_L (QFP, 44-Leads, Body 10x10mm, Pitch 0.8mm, IPC High Density)
footprint 44QFP_M (QFP, 44-Leads, Body 10x10mm, Pitch 0.8mm, IPC Low Density)
pins: 1 PA5 (io), 2 PA6 (io), 3 PA7 (io), 4 PB0 (io), 5 PB1 (io), 6 PB2 (io), 7 PB3 (io), 8 VDDB (power), 9 PB4 (io), 10 PB5 (io), 11 PB6 (io), 12 PB7 (io), 13 PC0 (io), 14 PC1 (io), 15 PC2 (io), 16 PC3 (io), 17 VSSC (power), 18 PC4 (io), 19 CREF (out), 20 RREF (out), 21 IN (in), 22 RCOUT (in), 23 RC1 (in), 24 RC2 (in), 25 RC3 (in), 26 RC4 (in), 27 RC5 (in), 28 RC6 (in), 29 RC7 (in), 30 RC8 (in), 31 RC9 (in), 32 RC10 (in), 33 RC11 (in), 34 RC12 (in), 35 VSS (power), 36 VDD (power), 37 OSC2 (in), 38 OSC1 (out), 39 ~{RES} (in), 40 PA0/INT0 (io), 41 PA1/INT1 (io), 42 PA2/TMR (io), 43 PA3 (io), 44 PA4 (io)

## HT45R36_52QFP
designator U?
Touch Key MCU, C/R-F Type MCU, 2.2V-5.5V, 400kHz-8MHz, 2Kx14 Program Memory, 120x8 Data Memory, 25 I/O, 1 x 8-bit Timer, 1 x 16-bit Timer, 16 C/R-F, 52-pin QFP; I/O: 25; DatasheetVersion: rev1.0, Sep-2006; PackageVersion: 25/05/2010; PackageReference: 52QFP; PackageDescription: 52-Pin Quad Flat Pack, 14 x 14 mm Body, 1 mm Pitch; Series: C/R-F Type MCU; Operating Voltage: 2.2V-5.5V; Program Memory: 2Kx14; Data Memory: 120x8; ComponentLink1Description: Manufacturer URL; ComponentLink1URL: http://www.holtek.com/; ComponentLink2Description: Datasheet; ComponentLink2URL: http://www.holtek.com.cn/pdf/uc/sim45x36v100.pdf; ComponentLink3Description: Package Specification; ComponentLink3URL: http://www.holtek.com/english/literature/package.pdf
footprint 52QFP_N (QFP, 52-Leads, Body 14x14mm, Pitch 1mm, IPC Medium Density)
footprint 52QFP_L (QFP, 52-Leads, Body 14x14mm, Pitch 1mm, IPC High Density)
footprint 52QFP_M (QFP, 52-Leads, Body 14x14mm, Pitch 1mm, IPC Low Density)
pins: 1 PA5 (io), 2 PA6 (io), 3 PA7 (io), 4 PB0 (io), 5 PB1 (io), 6 PB2 (io), 7 PB3 (io), 8 VDDB (power), 9 PB4 (io), 10 PB5 (io), 11 PB6 (io), 12 PB7 (io), 13 PC0 (io), 14 PC1 (io), 15 PC2 (io), 16 PC3 (io), 17 VSSC (power), 18 PC4 (io), 19 PC5 (io), 20 PC6 (io), 21 PC7 (io), 22 PD0 (io), 23 CREF (out), 24 RREF (out), 25 IN (in), 26 RCOUT (in), 27 RC1 (in), 28 RC2 (in), 29 RC3 (in), 30 RC4 (in), 31 RC5 (in), 32 RC6 (in), 33 RC7 (in), 34 RC8 (in), 35 RC9 (in), 36 RC10 (in), 37 RC11 (in), 38 RC12 (in), 39 RC13 (in), 40 RC14 (in), 41 RC15 (in), 42 RC16 (in), 43 VSS (power), 44 VDD (power), 45 OSC2 (in), 46 OSC1 (out), 47 ~{RES} (in), 48 PA0/INT0 (io), 49 PA1/INT1 (io), 50 PA2/TMR (io), 51 PA3 (io), 52 PA4 (io)

## HT45R37_20DIP
designator U?
Touch Key MCU, C/R-F Type MCU, 2.2V-5.5V, 400kHz-8MHz, 4Kx15 Program Memory, 160x8 Data Memory, 27 I/O, 2 x 8-bit Timer, 1 x 16-bit Timer, 16 C/R-F, 12-bitx6 A/D, 12-bitx2 PWM, 20-pin DIP; I/O: 27; DatasheetVersion: rev1.1, Jan-2010; PackageVersion: 25/05/2010; PackageReference: 20DIP; PackageDescription: 20-Pin, Dual In-line Package, 300mil Width, Pitch 2.54 mm, Full Lead; Series: C/R-F Type MCU; Operating Voltage: 2.2V-5.5V; Program Memory: 4Kx15; Data Memory: 160x8; Code_JEDEC: MO-095A; ComponentLink1Description: Manufacturer URL; ComponentLink1URL: http://www.holtek.com/; ComponentLink2Description: Datasheet; ComponentLink2URL: http://www.holtek.com.cn/pdf/uc/sim45x37v110.pdf; ComponentLink3Description: Package Specification; ComponentLink3URL: http://www.holtek.com/english/literature/package.pdf
footprint 20DIP (DIP, 20-Leads, Row Spacing 7.62mm, Pitch 2.54mm, Body 24.5x7.2mm)
pins: 1 PB1/AN1 (io), 2 PB0/AN0 (io), 3 VSS/AVSS (power), 4 CREF (in), 5 RREF (in), 6 RCOUT/IN (in), 7 PA0/BZ/RC0 (io), 8 PA1/~{BZ}/RC1 (io), 9 PA2/TMR0/RC2 (io), 10 PA3/PFD/RC3 (io), 11 PA4/TMR1/~{SCS}/RC4 (io), 12 PA5/SCK/SCL/RC5 (io), 13 PA6/INT0/SDI/SDA/RC6 (io), 14 PA7/INT1/SDO/RC7 (io), 15 PC0/~{RES} (io), 16 VDD/AVDD (power), 17 PC1/OSC1 (io), 18 PC2/OSC2 (io), 19 PB3/AN3 (io), 20 PB2/AN2 (io)

## HT45R37_20SOP
designator U?
Touch Key MCU, C/R-F Type MCU, 2.2V-5.5V, 400kHz-8MHz, 4Kx15 Program Memory, 160x8 Data Memory, 27 I/O, 2 x 8-bit Timer, 1 x 16-bit Timer, 16 C/R-F, 12-bitx6 A/D, 12-bitx2 PWM, 20-pin SOP; I/O: 27; DatasheetVersion: rev1.1, Jan-2010; PackageVersion: 25/05/2010; PackageReference: 20SOP; PackageDescription: 20-Pin Small Outline Package, 300mil Wide, 1.27 mm Pitch; Series: C/R-F Type MCU; Operating Voltage: 2.2V-5.5V; Program Memory: 4Kx15; Data Memory: 160x8; Code_JEDEC: MS-013; Code_IPC: SOIC127P1030-20; ComponentLink1Description: Manufacturer URL; ComponentLink1URL: http://www.holtek.com/; ComponentLink2Description: Datasheet; ComponentLink2URL: http://www.holtek.com.cn/pdf/uc/sim45x37v110.pdf; ComponentLink3Description: Package Specification; ComponentLink3URL: http://www.holtek.com/english/literature/package.pdf
footprint 20SOP_N (SOIC, 20-Leads, Body 12.8x7.1mm, Pitch 1.27mm, IPC Medium Density)
footprint 20SOP_L (SOIC, 20-Leads, Body 12.8x7.1mm, Pitch 1.27mm, IPC High Density)
footprint 20SOP_M (SOIC, 20-Leads, Body 12.8x7.1mm, Pitch 1.27mm, IPC Low Density)
pins: 1 PB1/AN1 (io), 2 PB0/AN0 (io), 3 VSS/AVSS (power), 4 CREF (in), 5 RREF (in), 6 RCOUT/IN (in), 7 PA0/BZ/RC0 (io), 8 PA1/~{BZ}/RC1 (io), 9 PA2/TMR0/RC2 (io), 10 PA3/PFD/RC3 (io), 11 PA4/TMR1/~{SCS}/RC4 (io), 12 PA5/SCK/SCL/RC5 (io), 13 PA6/INT0/SDI/SDA/RC6 (io), 14 PA7/INT1/SDO/RC7 (io), 15 PC0/~{RES} (io), 16 VDD/AVDD (power), 17 PC1/OSC1 (io), 18 PC2/OSC2 (io), 19 PB3/AN3 (io), 20 PB2/AN2 (io)

## HT45R37_24SKDIP
designator U?
Touch Key MCU, C/R-F Type MCU, 2.2V-5.5V, 400kHz-8MHz, 4Kx15 Program Memory, 160x8 Data Memory, 27 I/O, 2 x 8-bit Timer, 1 x 16-bit Timer, 16 C/R-F, 12-bitx6 A/D, 12-bitx2 PWM, 24-pin SKDIP; I/O: 27; DatasheetVersion: rev1.1, Jan-2010; PackageVersion: 25/05/2010; PackageReference: 24SKDIP; PackageDescription: 24-Pin, Skinny Dual In-line Package, 300mil Width, Pitch 2.54 mm, Full Lead (MS-001D); Series: C/R-F Type MCU; Operating Voltage: 2.2V-5.5V; Program Memory: 4Kx15; Data Memory: 160x8; Code_JEDEC: MS-001; ComponentLink1Description: Manufacturer URL; ComponentLink1URL: http://www.holtek.com/; ComponentLink2Description: Datasheet; ComponentLink2URL: http://www.holtek.com.cn/pdf/uc/sim45x37v110.pdf; ComponentLink3Description: Package Specification; ComponentLink3URL: http://www.holtek.com/english/literature/package.pdf
footprint 24SKDIP (DIP, 24-Leads, Row Spacing 7.62mm, Pitch 2.54mm, Body 31.9x6.6mm)
pins: 1 PB2/AN2 (io), 2 PB1/AN1 (io), 3 PB0/AN0 (io), 4 VSS/AVSS (power), 5 CREF (in), 6 RREF (in), 7 RCOUT/IN (in), 8 PA0/BZ/RC0 (io), 9 PA1/~{BZ}/RC1 (io), 10 PA2/TMR0/RC2 (io), 11 PA3/PFD/RC3 (io), 12 PD0/PWM0/RC8 (io), 13 PD1/PWM1/RC9 (io), 14 PA4/TMR1/~{SCS}/RC4 (io), 15 PA5/SCK/SCL/RC5 (io), 16 PA6/INT0/SDI/SDA/RC6 (io), 17 PA7/INT1/SDO/RC7 (io), 18 PC0/~{RES} (io), 19 VDD/AVDD (power), 20 PC1/OSC1 (io), 21 PC2/OSC2 (io), 22 PB5/AN5 (io), 23 PB4/AN4 (io), 24 PB3/AN3 (io)

## HT45R37_24SOP
designator U?
Touch Key MCU, C/R-F Type MCU, 2.2V-5.5V, 400kHz-8MHz, 4Kx15 Program Memory, 160x8 Data Memory, 27 I/O, 2 x 8-bit Timer, 1 x 16-bit Timer, 16 C/R-F, 12-bitx6 A/D, 12-bitx2 PWM, 24-pin SOP; I/O: 27; DatasheetVersion: rev1.1, Jan-2010; PackageVersion: 25/05/2010; PackageReference: 24SOP; PackageDescription: 24-Pin Small Outline Package, 300mil Wide, 1.27 mm Pitch; Series: C/R-F Type MCU; Operating Voltage: 2.2V-5.5V; Program Memory: 4Kx15; Data Memory: 160x8; Code_JEDEC: MS-013; ComponentLink1Description: Manufacturer URL; ComponentLink1URL: http://www.holtek.com/; ComponentLink2Description: Datasheet; ComponentLink2URL: http://www.holtek.com.cn/pdf/uc/sim45x37v110.pdf; ComponentLink3Description: Package Specification; ComponentLink3URL: http://www.holtek.com/english/literature/package.pdf
footprint 24SOP_N (SOIC, 24-Leads, Body 15.4x7.1mm, Pitch 1.27mm, IPC Medium Density)
footprint 24SOP_L (SOIC, 24-Leads, Body 15.4x7.1mm, Pitch 1.27mm, IPC High Density)
footprint 24SOP_M (SOIC, 24-Leads, Body 15.4x7.1mm, Pitch 1.27mm, IPC Low Density)
pins: 1 PB2/AN2 (io), 2 PB1/AN1 (io), 3 PB0/AN0 (io), 4 VSS/AVSS (power), 5 CREF (in), 6 RREF (in), 7 RCOUT/IN (in), 8 PA0/BZ/RC0 (io), 9 PA1/~{BZ}/RC1 (io), 10 PA2/TMR0/RC2 (io), 11 PA3/PFD/RC3 (io), 12 PD0/PWM0/RC8 (io), 13 PD1/PWM1/RC9 (io), 14 PA4/TMR1/~{SCS}/RC4 (io), 15 PA5/SCK/SCL/RC5 (io), 16 PA6/INT0/SDI/SDA/RC6 (io), 17 PA7/INT1/SDO/RC7 (io), 18 PC0/~{RES} (io), 19 VDD/AVDD (power), 20 PC1/OSC1 (io), 21 PC2/OSC2 (io), 22 PB5/AN5 (io), 23 PB4/AN4 (io), 24 PB3/AN3 (io)

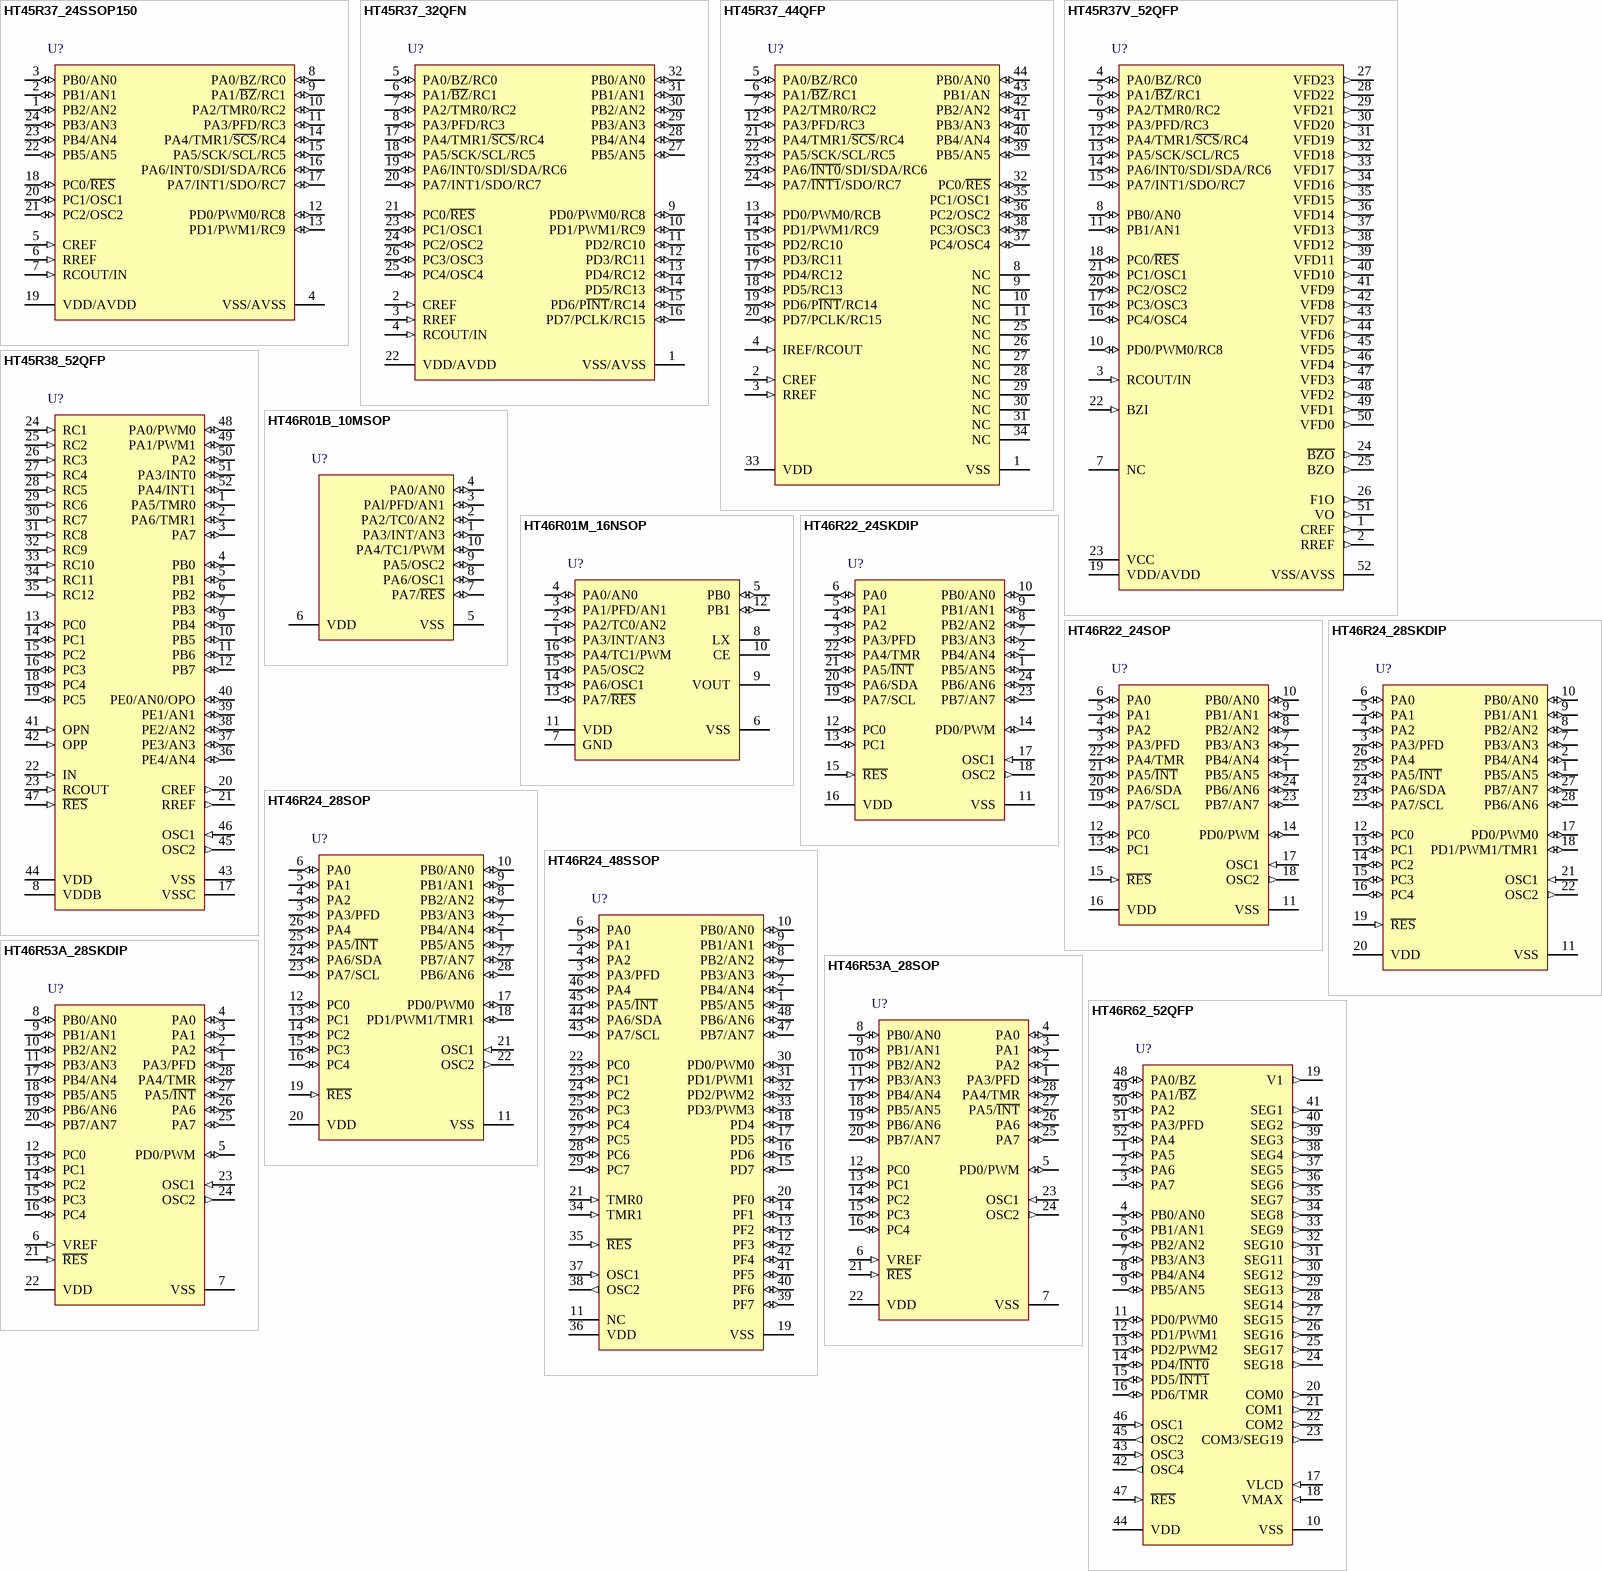
[diagram p4: symbols HT45R37_24SSOP150 to HT46R62_52QFP]

## HT45R37_24SSOP150
designator U?
Touch Key MCU, C/R-F Type MCU, 2.2V-5.5V, 400kHz-8MHz, 4Kx15 Program Memory, 160x8 Data Memory, 27 I/O, 2 x 8-bit Timer, 1 x 16-bit Timer, 16 C/R-F, 12-bitx6 A/D, 12-bitx2 PWM, 24-pin SSOP; I/O: 27; DatasheetVersion: rev1.1, Jan-2010; PackageVersion: 25/05/2010; PackageReference: 24SSOP150; PackageDescription: 24-Pin Shrink Small Outline Package, 150mil Width, 0.64 mm Pitch; Series: C/R-F Type MCU; Operating Voltage: 2.2V-5.5V; Program Memory: 4Kx15; Data Memory: 160x8; ComponentLink1Description: Manufacturer URL; ComponentLink1URL: http://www.holtek.com/; ComponentLink2Description: Datasheet; ComponentLink2URL: http://www.holtek.com.cn/pdf/uc/sim45x37v110.pdf; ComponentLink3Description: Package Specification; ComponentLink3URL: http://www.holtek.com/english/literature/package.pdf
footprint 24SSOP150_N (SOP, 24-Leads, Body 8.7x3.9mm, Pitch 0.635mm, IPC Medium Density)
footprint 24SSOP150_L (SOP, 24-Leads, Body 8.7x3.9mm, Pitch 0.635mm, IPC High Density)
footprint 24SSOP150_M (SOP, 24-Leads, Body 8.7x3.9mm, Pitch 0.635mm, IPC Low Density)
pins: 1 PB2/AN2 (io), 2 PB1/AN1 (io), 3 PB0/AN0 (io), 4 VSS/AVSS (power), 5 CREF (in), 6 RREF (in), 7 RCOUT/IN (in), 8 PA0/BZ/RC0 (io), 9 PA1/~{BZ}/RC1 (io), 10 PA2/TMR0/RC2 (io), 11 PA3/PFD/RC3 (io), 12 PD0/PWM0/RC8 (io), 13 PD1/PWM1/RC9 (io), 14 PA4/TMR1/~{SCS}/RC4 (io), 15 PA5/SCK/SCL/RC5 (io), 16 PA6/INT0/SDI/SDA/RC6 (io), 17 PA7/INT1/SDO/RC7 (io), 18 PC0/~{RES} (io), 19 VDD/AVDD (power), 20 PC1/OSC1 (io), 21 PC2/OSC2 (io), 22 PB5/AN5 (io), 23 PB4/AN4 (io), 24 PB3/AN3 (io)

## HT45R37_32QFN
designator U?
Touch Key MCU, C/R-F Type MCU, 2.2V-5.5V, 400kHz-8MHz, 4Kx15 Program Memory, 160x8 Data Memory, 27 I/O, 2 x 8-bit Timer, 1 x 16-bit Timer, 16 C/R-F, 12-bitx6 A/D, 12-bitx2 PWM, 32-pin QFN; I/O: 27; DatasheetVersion: rev1.1, Jan-2010; PackageVersion: 25/05/2010; PackageReference: 32QFN; PackageDescription: 32-Pin Sawn Quad Flat No-Lead, 5 x 5 x 0.75 mm Body, 0.5 mm Pitch; Series: C/R-F Type MCU; Operating Voltage: 2.2V-5.5V; Program Memory: 4Kx15; Data Memory: 160x8; ComponentLink1Description: Manufacturer URL; ComponentLink1URL: http://www.holtek.com/; ComponentLink2Description: Datasheet; ComponentLink2URL: http://www.holtek.com.cn/pdf/uc/sim45x37v110.pdf; ComponentLink3Description: Package Specification; ComponentLink3URL: http://www.holtek.com/english/literature/package.pdf
footprint 32QFN_N (QFN, 32-Leads, Body 5x5mm, Pitch 0.5mm, Thermal Pad 3.3x3.3mm, IPC Medium Density)
footprint 32QFN_L (QFN, 32-Leads, Body 5x5mm, Pitch 0.5mm, Thermal Pad 3.3x3.3mm, IPC High Density)
footprint 32QFN_M (QFN, 32-Leads, Body 5x5mm, Pitch 0.5mm, Thermal Pad 3.3x3.3mm, IPC Low Density)
pins: 1 VSS/AVSS (power), 2 CREF (in), 3 RREF (in), 4 RCOUT/IN (in), 5 PA0/BZ/RC0 (io), 6 PA1/~{BZ}/RC1 (io), 7 PA2/TMR0/RC2 (io), 8 PA3/PFD/RC3 (io), 9 PD0/PWM0/RC8 (io), 10 PD1/PWM1/RC9 (io), 11 PD2/RC10 (io), 12 PD3/RC11 (io), 13 PD4/RC12 (io), 14 PD5/RC13 (io), 15 PD6/P~{INT}/RC14 (io), 16 PD7/PCLK/RC15 (io), 17 PA4/TMR1/~{SCS}/RC4 (io), 18 PA5/SCK/SCL/RC5 (io), 19 PA6/INT0/SDl/SDA/RC6 (io), 20 PA7/INT1/SDO/RC7 (io), 21 PC0/~{RES} (io), 22 VDD/AVDD (power), 23 PC1/OSC1 (io), 24 PC2/OSC2 (io), 25 PC4/OSC4 (io), 26 PC3/OSC3 (io), 27 PB5/AN5 (io), 28 PB4/AN4 (io), 29 PB3/AN3 (io), 30 PB2/AN2 (io), 31 PB1/AN1 (io), 32 PB0/AN0 (io)

## HT45R37_44QFP
designator U?
Touch Key MCU, C/R-F Type MCU, 2.2V-5.5V, 400kHz-8MHz, 4Kx15 Program Memory, 160x8 Data Memory, 27 I/O, 2 x 8-bit Timer, 1 x 16-bit Timer, 16 C/R-F, 12-bitx6 A/D, 12-bitx2 PWM, 44-pin QFP; I/O: 27; DatasheetVersion: rev1.1, Jan-2010; PackageVersion: 25/05/2010; PackageReference: 44QFP; PackageDescription: 44-Pin Quad Flat Pack, 10 x 10 mm Body, 0.8 mm Pitch; Series: C/R-F Type MCU; Operating Voltage: 2.2V-5.5V; Program Memory: 4Kx15; Data Memory: 160x8; Code_IPC: QFP80P1320X1320-44; ComponentLink1Description: Manufacturer URL; ComponentLink1URL: http://www.holtek.com/; ComponentLink2Description: Datasheet; ComponentLink2URL: http://www.holtek.com.cn/pdf/uc/sim45x37v110.pdf; ComponentLink3Description: Package Specification; ComponentLink3URL: http://www.holtek.com/english/literature/package.pdf
footprint 44QFP_N (QFP, 44-Leads, Body 10x10mm, Pitch 0.8mm, IPC Medium Density)
footprint 44QFP_L (QFP, 44-Leads, Body 10x10mm, Pitch 0.8mm, IPC High Density)
footprint 44QFP_M (QFP, 44-Leads, Body 10x10mm, Pitch 0.8mm, IPC Low Density)
pins: 1 VSS (power), 2 CREF (in), 3 RREF (in), 4 IREF/RCOUT (in), 5 PA0/BZ/RC0 (io), 6 PA1/~{BZ}/RC1 (io), 7 PA2/TMR0/RC2 (io), 8 NC, 9 NC, 10 NC, 11 NC, 12 PA3/PFD/RC3 (io), 13 PD0/PWM0/RCB (io), 14 PD1/PWM1/RC9 (io), 15 PD2/RC10 (io), 16 PD3/RC11 (io), 17 PD4/RC12 (io), 18 PD5/RC13 (io), 19 PD6/P~{INT}/RC14 (io), 20 PD7/PCLK/RC15 (io), 21 PA4/TMR1/~{SCS}/RC4 (io), 22 PA5/SCK/SCL/RC5 (io), 23 PA6/~{INT0}/SDI/SDA/RC6 (io), 24 PA7/~{INT1}/SDO/RC7 (io), 25 NC, 26 NC, 27 NC, 28 NC, 29 NC, 30 NC, 31 NC, 32 PC0/~{RES} (io), 33 VDD (power), 34 NC, 35 PC1/OSC1 (io), 36 PC2/OSC2 (io), 37 PC4/OSC4 (io), 38 PC3/OSC3 (io), 39 PB5/AN5 (io), 40 PB4/AN4 (io), 41 PB3/AN3 (io), 42 PB2/AN2 (io), 43 PB1/AN (io), 44 PB0/AN0 (io)

## HT45R37V_52QFP
designator U?
Display MCU, 24V VFD MCU, 12V-24V, 400kHz-12MHz, 4Kx15 Program Memory, 160x8 Data Memory, 11 I/O, 2 x 8-bit Timer, 2-bitx4 A/D, 12-bitx1 PWM, 52-pin QFP; I/O: 11; DatasheetVersion: rev1.0, Oct-2009; PackageVersion: 25/05/2010; PackageReference: 52QFP; PackageDescription: 52-Pin Quad Flat Pack, 14 x 14 mm Body, 1 mm Pitch; Series: 24V VFD MCU; Operating Voltage: 12V-24V; Program Memory: 4Kx15; Data Memory: 160x8; ComponentLink1Description: Manufacturer URL; ComponentLink1URL: http://www.holtek.com/; ComponentLink2Description: Datasheet; ComponentLink2URL: http://www.holtek.com.cn/pdf/uc/sim45r37vv100.pdf; ComponentLink3Description: Package Specification; ComponentLink3URL: http://www.holtek.com/english/literature/package.pdf
footprint 52QFP_N (QFP, 52-Leads, Body 14x14mm, Pitch 1mm, IPC Medium Density)
footprint 52QFP_L (QFP, 52-Leads, Body 14x14mm, Pitch 1mm, IPC High Density)
footprint 52QFP_M (QFP, 52-Leads, Body 14x14mm, Pitch 1mm, IPC Low Density)
pins: 1 CREF (out), 2 RREF (out), 3 RCOUT/IN (in), 4 PA0/BZ/RC0 (io), 5 PA1/~{BZ}/RC1 (io), 6 PA2/TMR0/RC2 (io), 7 NC, 8 PB0/AN0 (io), 9 PA3/PFD/RC3 (io), 10 PD0/PWM0/RC8 (io), 11 PB1/AN1 (io), 12 PA4/TMR1/~{SCS}/RC4 (io), 13 PA5/SCK/SCL/RC5 (io), 14 PA6/INT0/SDI/SDA/RC6 (io), 15 PA7/INT1/SDO/RC7 (io), 16 PC4/OSC4 (io), 17 PC3/OSC3 (io), 18 PC0/~{RES} (io), 19 VDD/AVDD (power), 20 PC2/OSC2 (io), 21 PC1/OSC1 (io), 22 BZI (in), 23 VCC (power), 24 ~{BZO} (out), 25 BZO (out), 26 F1O (out), 27 VFD23 (out), 28 VFD22 (out), 29 VFD21 (out), 30 VFD20 (out), 31 VFD19 (out), 32 VFD18 (out), 33 VFD17 (out), 34 VFD16 (out), 35 VFD15 (out), 36 VFD14 (out), 37 VFD13 (out), 38 VFD12 (out), 39 VFD11 (out), 40 VFD10 (out), 41 VFD9 (out), 42 VFD8 (out), 43 VFD7 (out), 44 VFD6 (out), 45 VFD5 (out), 46 VFD4 (out), 47 VFD3 (out), 48 VFD2 (out), 49 VFD1 (out), 50 VFD0 (out), 51 VO (out), 52 VSS/AVSS (power)

## HT45R38_52QFP
designator U?
Touch Key MCU, C/R-F Type MCU, 2.2V-5.5V, 400kHz-8MHz, 4Kx15 Program Memory, 192x8 Data Memory, 29 I/O, 2 x 8-bit Timer, 1 x 16-bit Timer, 12 C/R-F, 12-bitx5 A/D, 8-bitx2 PWM, 52-pin QFP; I/O: 29; DatasheetVersion: rev1.0, Dec-2006; PackageVersion: 25/05/2010; PackageReference: 52QFP; PackageDescription: 52-Pin Quad Flat Pack, 14 x 14 mm Body, 1 mm Pitch; Series: C/R-F Type MCU; Operating Voltage: 2.2V-5.5V; Program Memory: 4Kx15; Data Memory: 192x8; ComponentLink1Description: Manufacturer URL; ComponentLink1URL: http://www.holtek.com/; ComponentLink2Description: Datasheet; ComponentLink2URL: http://www.holtek.com.cn/pdf/uc/sim45x38v100.pdf; ComponentLink3Description: Package Specification; ComponentLink3URL: http://www.holtek.com/english/literature/package.pdf
footprint 52QFP_N (QFP, 52-Leads, Body 14x14mm, Pitch 1mm, IPC Medium Density)
footprint 52QFP_L (QFP, 52-Leads, Body 14x14mm, Pitch 1mm, IPC High Density)
footprint 52QFP_M (QFP, 52-Leads, Body 14x14mm, Pitch 1mm, IPC Low Density)
pins: 1 PA5/TMR0 (io), 2 PA6/TMR1 (io), 3 PA7 (io), 4 PB0 (io), 5 PB1 (io), 6 PB2 (io), 7 PB3 (io), 8 VDDB (power), 9 PB4 (io), 10 PB5 (io), 11 PB6 (io), 12 PB7 (io), 13 PC0 (io), 14 PC1 (io), 15 PC2 (io), 16 PC3 (io), 17 VSSC (power), 18 PC4 (io), 19 PC5 (io), 20 CREF (out), 21 RREF (out), 22 IN (in), 23 RCOUT (in), 24 RC1 (in), 25 RC2 (in), 26 RC3 (in), 27 RC4 (in), 28 RC5 (in), 29 RC6 (in), 30 RC7 (in), 31 RC8 (in), 32 RC9 (in), 33 RC10 (in), 34 RC11 (in), 35 RC12 (in), 36 PE4/AN4 (io), 37 PE3/AN3 (io), 38 PE2/AN2 (io), 39 PE1/AN1 (io), 40 PE0/AN0/OPO (io), 41 OPN (in), 42 OPP (in), 43 VSS (power), 44 VDD (power), 45 OSC2 (out), 46 OSC1 (in), 47 ~{RES} (in), 48 PA0/PWM0 (io), 49 PA1/PWM1 (io), 50 PA2 (io), 51 PA3/INT0 (io), 52 PA4/INT1 (io)

## HT46R01B_10MSOP
designator U?
Small Package MCU, Small Package A/D Type MCU, 2.2V-5.5V, 32kHz-12MHz, 1Kx15 Program Memory, 96x8 Data Memory, 8 I/O, 2 x 8-bit Timer, 10-pin MSOP; I/O: 8; DatasheetVersion: rev1.1, Feb-2010; PackageVersion: 25/05/2010; PackageReference: 10MSOP; PackageDescription: 10-Pin Thin Shrink Small Outline Package, 3 x 3 mm Body, 0.5 mm Pitch [MSOP]; Series: Small Package A/D Type MCU; Operating Voltage: 2.2V-5.5V; Program Memory: 1Kx15; Data Memory: 96x8; ComponentLink1Description: Manufacturer URL; ComponentLink1URL: http://www.holtek.com/; ComponentLink2Description: Datasheet; ComponentLink2URL: http://www.holtek.com.cn/pdf/uc/4xR0xB_xNv110.pdf; ComponentLink3Description: Package Specification; ComponentLink3URL: http://www.holtek.com/english/literature/package.pdf
footprint 10MSOP_N (TSSOP, 10-Leads, Body 3x3mm, Pitch 0.5mm, IPC Medium Density)
footprint 10MSOP_L (TSSOP, 10-Leads, Body 3x3mm, Pitch 0.5mm, IPC High Density)
footprint 10MSOP_M (TSSOP, 10-Leads, Body 3x3mm, Pitch 0.5mm, IPC Low Density)
pins: 1 PA3/INT/AN3 (io), 2 PA2/TC0/AN2 (io), 3 PAl/PFD/AN1 (io), 4 PA0/AN0 (io), 5 VSS (power), 6 VDD (power), 7 PA7/~{RES} (io), 8 PA6/OSC1 (io), 9 PA5/OSC2 (io), 10 PA4/TC1/PWM (io)

## HT46R01M_16NSOP
designator U?
1.5V Battery MCU, 1.5V Battery Type MCU, 0.7V-3.3V, 32kHz-8MHz, 1Kx15 Program Memory, 96x8 Data Memory, 10 I/O, 2 x 8-bit Timer, 12-bitx4 A/D, 8-bitx1 PWM, 16-pin NSOP; I/O: 10; DatasheetVersion: rev1.1, Mar-2010; PackageVersion: 25/05/2010; PackageReference: 16NSOP; PackageDescription: 16-Pin Narrow Small Outline Package, 150mil Wide, 1.27 mm Pitch; Series: 1.5V Battery Type MCU; Operating Voltage: 0.7V-3.3V; Program Memory: 1Kx15; Data Memory: 96x8; ComponentLink1Description: Manufacturer URL; ComponentLink1URL: http://www.holtek.com/; ComponentLink2Description: Datasheet; ComponentLink2URL: http://www.holtek.com/pdf/uc/4xR0xMv110.pdf; ComponentLink3Description: Package Specification; ComponentLink3URL: http://www.holtek.com/english/literature/package.pdf
footprint 16NSOP_N (SOIC, 16-Leads, Body 10.01x3.9mm, Pitch 1.27mm, IPC Medium Density)
footprint 16NSOP_L (SOIC, 16-Leads, Body 10.01x3.9mm, Pitch 1.27mm, IPC High Density)
footprint 16NSOP_M (SOIC, 16-Leads, Body 10.01x3.9mm, Pitch 1.27mm, IPC Low Density)
pins: 1 PA3/INT/AN3 (io), 2 PA2/TC0/AN2 (io), 3 PA1/PFD/AN1 (io), 4 PA0/AN0 (io), 5 PB0 (io), 6 VSS (power), 7 GND (power), 8 LX, 9 VOUT (power), 10 CE, 11 VDD (power), 12 PB1 (io), 13 PA7/~{RES} (io), 14 PA6/OSC1 (io), 15 PA5/OSC2 (io), 16 PA4/TC1/PWM (io)

## HT46R22_24SKDIP
designator U?
General Purpose MCU, A/D Type MCU with I2C Interface, 2.2V-5.5V, 400kHz-8MHz, 2Kx14 Program Memory, 64x8 Data Memory, 19 I/O, 1 x 8-bit Timer, 8-bitx1 PWM, 24-pin SKDIP; I/O: 19; DatasheetVersion: rev2.11, Jan-2009; PackageVersion: 25/05/2010; PackageReference: 24SKDIP; PackageDescription: 24-Pin, Skinny Dual In-line Package, 300mil Width, Pitch 2.54 mm, Full Lead (MS-001D); Series: A/D Type MCU with I2C Interface; Operating Voltage: 2.2V-5.5V; Program Memory: 2Kx14; Data Memory: 64x8; Code_JEDEC: MS-001; ComponentLink1Description: Manufacturer URL; ComponentLink1URL: http://www.holtek.com/; ComponentLink2Description: Datasheet; ComponentLink2URL: http://www.holtek.com.cn/pdf/uc/sim46x22v211.pdf; ComponentLink3Description: Package Specification; ComponentLink3URL: http://www.holtek.com/english/literature/package.pdf
footprint 24SKDIP (DIP, 24-Leads, Row Spacing 7.62mm, Pitch 2.54mm, Body 31.9x6.6mm)
pins: 1 PB5/AN5 (io), 2 PB4/AN4 (io), 3 PA3/PFD (io), 4 PA2 (io), 5 PA1 (io), 6 PA0 (io), 7 PB3/AN3 (io), 8 PB2/AN2 (io), 9 PB1/AN1 (io), 10 PB0/AN0 (io), 11 VSS (power), 12 PC0 (io), 13 PC1 (io), 14 PD0/PWM (io), 15 ~{RES} (in), 16 VDD (power), 17 OSC1 (in), 18 OSC2 (out), 19 PA7/SCL (io), 20 PA6/SDA (io), 21 PA5/~{INT} (io), 22 PA4/TMR (io), 23 PB7/AN7 (io), 24 PB6/AN6 (io)

## HT46R22_24SOP
designator U?
General Purpose MCU, A/D Type MCU with I2C Interface, 2.2V-5.5V, 400kHz-8MHz, 2Kx14 Program Memory, 64x8 Data Memory, 19 I/O, 1 x 8-bit Timer, 8-bitx1 PWM, 24-pin SOP; I/O: 19; DatasheetVersion: rev2.11, Jan-2009; PackageVersion: 25/05/2010; PackageReference: 24SOP; PackageDescription: 24-Pin Small Outline Package, 300mil Wide, 1.27 mm Pitch; Series: A/D Type MCU with I2C Interface; Operating Voltage: 2.2V-5.5V; Program Memory: 2Kx14; Data Memory: 64x8; Code_JEDEC: MS-013; ComponentLink1Description: Manufacturer URL; ComponentLink1URL: http://www.holtek.com/; ComponentLink2Description: Datasheet; ComponentLink2URL: http://www.holtek.com.cn/pdf/uc/sim46x22v211.pdf; ComponentLink3Description: Package Specification; ComponentLink3URL: http://www.holtek.com/english/literature/package.pdf
footprint 24SOP_N (SOIC, 24-Leads, Body 15.4x7.1mm, Pitch 1.27mm, IPC Medium Density)
footprint 24SOP_L (SOIC, 24-Leads, Body 15.4x7.1mm, Pitch 1.27mm, IPC High Density)
footprint 24SOP_M (SOIC, 24-Leads, Body 15.4x7.1mm, Pitch 1.27mm, IPC Low Density)
pins: 1 PB5/AN5 (io), 2 PB4/AN4 (io), 3 PA3/PFD (io), 4 PA2 (io), 5 PA1 (io), 6 PA0 (io), 7 PB3/AN3 (io), 8 PB2/AN2 (io), 9 PB1/AN1 (io), 10 PB0/AN0 (io), 11 VSS (power), 12 PC0 (io), 13 PC1 (io), 14 PD0/PWM (io), 15 ~{RES} (in), 16 VDD (power), 17 OSC1 (in), 18 OSC2 (out), 19 PA7/SCL (io), 20 PA6/SDA (io), 21 PA5/~{INT} (io), 22 PA4/TMR (io), 23 PB7/AN7 (io), 24 PB6/AN6 (io)